# Altium integrated library Analog Devices Switches and Multiplexers Analog Switches.IntLib: 575 symbols (part 16 of 23)
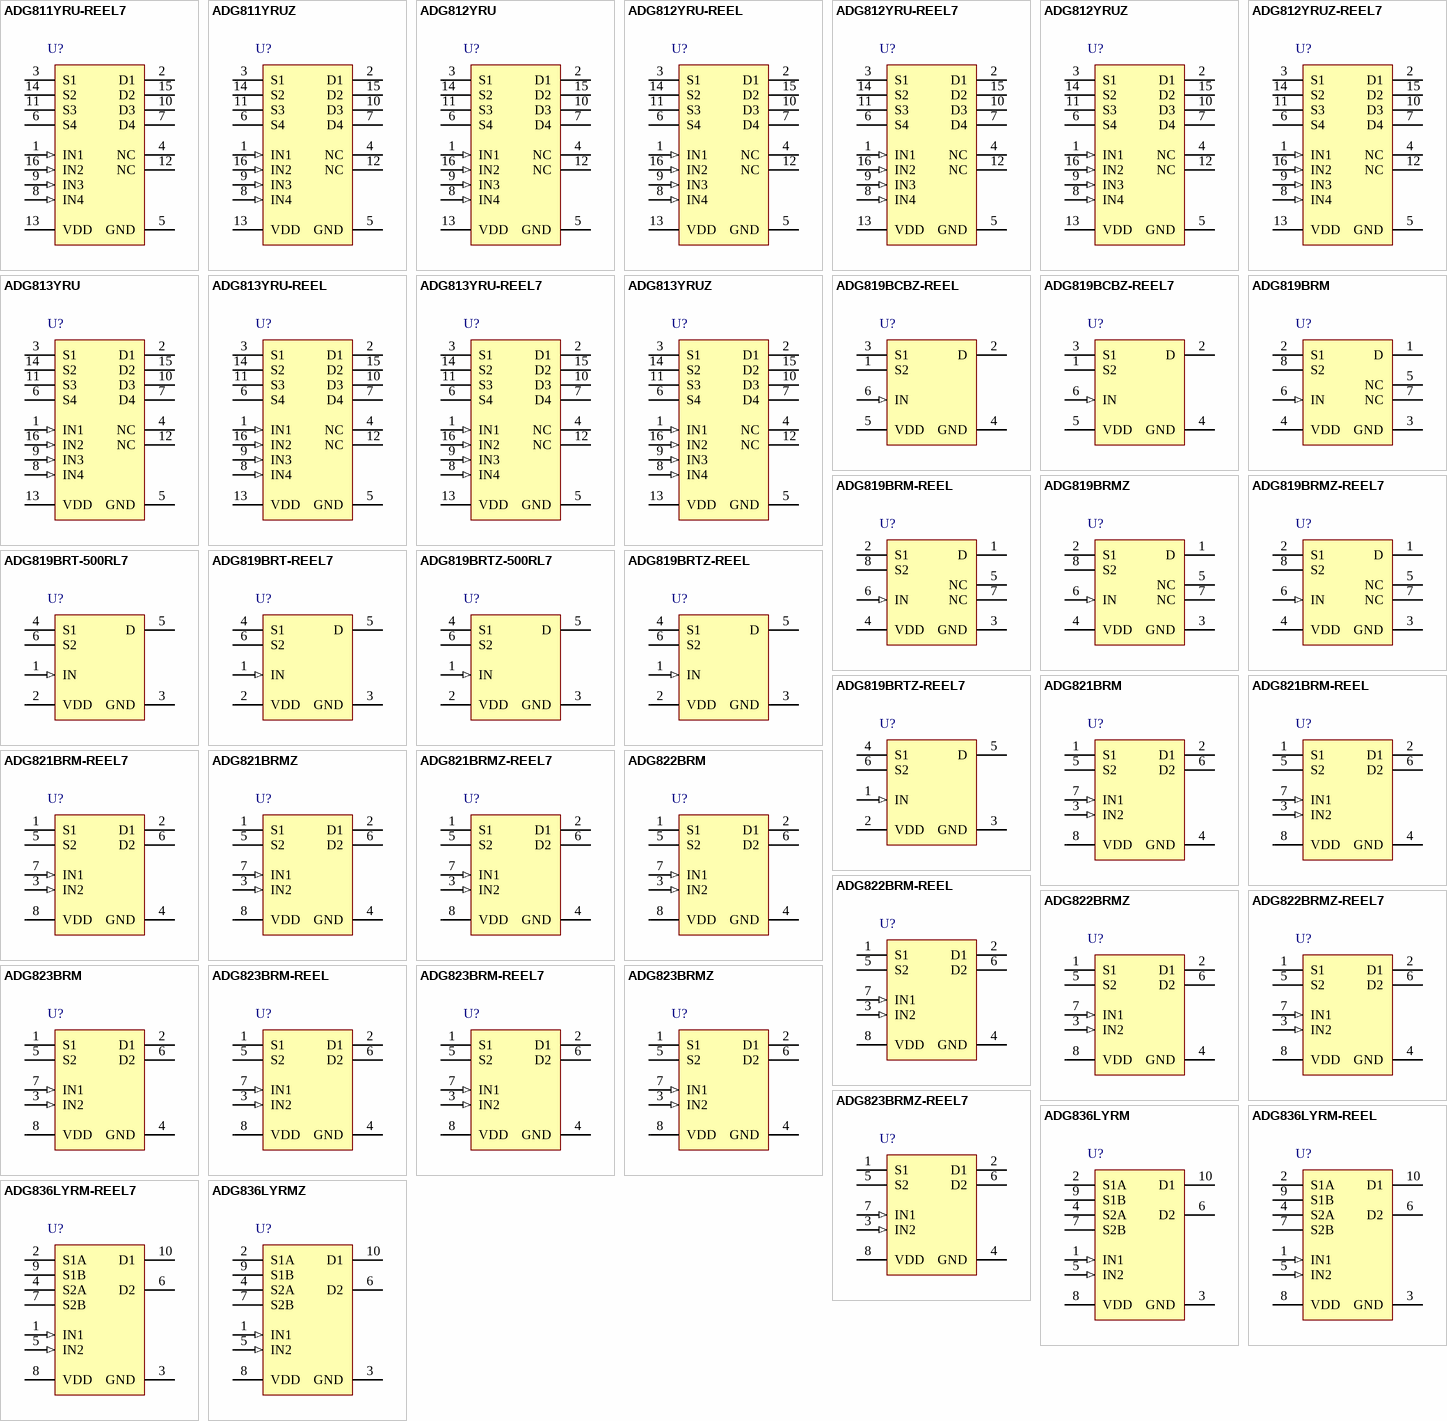
[diagram p30: symbols ADG811YRU-REEL7 to ADG836LYRMZ]

## ADG819BRMZ-REEL7
designator U?
0.5 Ohm, CMOS, 1.8 to 5.5 V, 2:1 Mux / SPDT Switch, -40 to 125 degC, 8-pin SOP (RM-8), Reel; Manufacturer: Analog Devices; PartNumber: ADG819BRMZ-REEL7; # Sw Functions: 1; Id, Is (ON): 10pA, 10pA; Max Pos Supply: 5.5V; Min Pos Supply: 1.8V; Power Dissipation: 5uW; Ron (ohms): 0.5; DatasheetVersion: 02-03-2012-A; PackageVersion: Aug-05; PackageReference: RM-8; PackageDescription: 8-Pin Mini Small Outline Package, Body 3 x 3 mm, Pitch 0.65 mm; Supplier 1: Digi-Key; Supplier Part Number 1: ADG819BRMZ-REEL7-ND; Supplier 2: Newark; Supplier Part Number 2: 59K1646; Supplier 3: Mouser; Supplier Part Number 3: 584-ADG819BRMZ-R7; Configuration: SPDT; Is OFF: 10pA, 10pA; Packing: Reel; Mounting Technology: Surface Mount; Code_JEDEC: MO-187-AA; ComponentLink1Description: Manufacturer URL; ComponentLink1URL: http://www.analog.com/en/index.html; ComponentLink2Description: Datasheet; ComponentLink2URL: http://www.analog.com/static/imported-files/data_sheets/ADG819.pdf; ComponentLink3Description: Package Specification; ComponentLink3URL: http://www.analog.com/static/imported-files/packages/PKG_PDF/MSOP%28RM%29/RM_8.pdf
footprint ADI-RM-8_N (SOP, 8-Leads, Body 3x3mm, Pitch 0.65mm, IPC Medium Density)
footprint ADI-RM-8_L (SOP, 8-Leads, Body 3x3mm, Pitch 0.65mm, IPC High Density)
footprint ADI-RM-8_M (SOP, 8-Leads, Body 3x3mm, Pitch 0.65mm, IPC Low Density)
pins: 1 D "Drain Terminal. Can be an input or output.", 2 S1 "Source Terminal. Can be an input or output.", 3 GND (power) "Ground (0 V) Reference.", 4 VDD (power) "Most Positive Power Supply Potential.", 5 NC "No Connect. Do not connect to this pin.", 6 IN (in) "Logic Control Input.", 7 NC "No Connect. Do not connect to this pin.", 8 S2 "Source Terminal. Can be an input or output."

## ADG819BRT-500RL7
designator U?
0.5 Ohm, CMOS, 1.8 to 5.5 V, 2:1 Mux / SPDT Switch, -40 to 125 degC, 6-pin SOT23 (RJ-6), Reel; Manufacturer: Analog Devices; PartNumber: ADG819BRT-500RL7; # Sw Functions: 1; Id, Is (ON): 10pA, 10pA; Max Pos Supply: 5.5V; Min Pos Supply: 1.8V; Power Dissipation: 5uW; Ron (ohms): 0.5; DatasheetVersion: 02-03-2012-A; PackageVersion: 121608-A, 12/2008; PackageReference: RJ-6; PackageDescription: 6-Pin Small Outline Transistor Package, Body 2.9 x 1.6 mm, Pitch 0.95 mm; Supplier 1: Digi-Key; Supplier Part Number 1: ADG819BRT-500RL7-ND; Supplier 2: Mouser; Supplier Part Number 2: 584-ADG819BRT-500R7; Configuration: SPDT; Is OFF: 10pA, 10pA; Packing: Reel; Mounting Technology: Surface Mount; Code_JEDEC: MO-178-AB; ComponentLink1Description: Manufacturer URL; ComponentLink1URL: http://www.analog.com/en/index.html; ComponentLink2Description: Datasheet; ComponentLink2URL: http://www.analog.com/static/imported-files/data_sheets/ADG819.pdf; ComponentLink3Description: Package Specification; ComponentLink3URL: http://www.analog.com/static/imported-files/packages/PKG_PDF/SOT-23(RJ)/RJ_6.pdf
footprint ADI-RJ-6_N (SOT23, 6-Leads, Body 2.9x1.6mm, Pitch 0.95mm, IPC Medium Density)
footprint ADI-RJ-6_L (SOT23, 6-Leads, Body 2.9x1.6mm, Pitch 0.95mm, IPC High Density)
footprint ADI-RJ-6_M (SOT23, 6-Leads, Body 2.9x1.6mm, Pitch 0.95mm, IPC Low Density)
pins: 1 IN (in) "Logic Control Input.", 2 VDD (power) "Most Positive Power Supply Potential.", 3 GND (power) "Ground (0 V) Reference.", 4 S1 "Source Terminal. Can be an input or output.", 5 D "Drain Terminal. Can be an input or output.", 6 S2 "Source Terminal. Can be an input or output."

## ADG819BRT-REEL7
designator U?
0.5 Ohm, CMOS, 1.8 to 5.5 V, 2:1 Mux / SPDT Switch, -40 to 125 degC, 6-pin SOT23 (RJ-6), Reel; Manufacturer: Analog Devices; PartNumber: ADG819BRT-REEL7; # Sw Functions: 1; Id, Is (ON): 10pA, 10pA; Max Pos Supply: 5.5V; Min Pos Supply: 1.8V; Power Dissipation: 5uW; Ron (ohms): 0.5; DatasheetVersion: 02-03-2012-A; PackageVersion: 121608-A, 12/2008; PackageReference: RJ-6; PackageDescription: 6-Pin Small Outline Transistor Package, Body 2.9 x 1.6 mm, Pitch 0.95 mm; Supplier 1: Digi-Key; Supplier Part Number 1: ADG819BRT-REEL7TR-ND; Supplier 2: Digi-Key; Supplier Part Number 2: ADG819BRT-REEL7CT-ND; Supplier 3: Digi-Key; Supplier Part Number 3: ADG819BRT-REEL7DKR-ND; Supplier 4: Newark; Supplier Part Number 4: 02H0937; Supplier 5: Mouser; Supplier Part Number 5: 584-ADG819BRT-R7; Configuration: SPDT; Is OFF: 10pA, 10pA; Packing: Reel; Mounting Technology: Surface Mount; Code_JEDEC: MO-178-AB; ComponentLink1Description: Manufacturer URL; ComponentLink1URL: http://www.analog.com/en/index.html; ComponentLink2Description: Datasheet; ComponentLink2URL: http://www.analog.com/static/imported-files/data_sheets/ADG819.pdf; ComponentLink3Description: Package Specification; ComponentLink3URL: http://www.analog.com/static/imported-files/packages/PKG_PDF/SOT-23(RJ)/RJ_6.pdf
footprint ADI-RJ-6_N (SOT23, 6-Leads, Body 2.9x1.6mm, Pitch 0.95mm, IPC Medium Density)
footprint ADI-RJ-6_L (SOT23, 6-Leads, Body 2.9x1.6mm, Pitch 0.95mm, IPC High Density)
footprint ADI-RJ-6_M (SOT23, 6-Leads, Body 2.9x1.6mm, Pitch 0.95mm, IPC Low Density)
pins: 1 IN (in) "Logic Control Input.", 2 VDD (power) "Most Positive Power Supply Potential.", 3 GND (power) "Ground (0 V) Reference.", 4 S1 "Source Terminal. Can be an input or output.", 5 D "Drain Terminal. Can be an input or output.", 6 S2 "Source Terminal. Can be an input or output."

## ADG819BRTZ-500RL7
designator U?
0.5 Ohm, CMOS, 1.8 to 5.5 V, 2:1 Mux / SPDT Switch, -40 to 125 degC, 6-pin SOT23 (RJ-6), Reel; Manufacturer: Analog Devices; PartNumber: ADG819BRTZ-500RL7; # Sw Functions: 1; Id, Is (ON): 10pA, 10pA; Max Pos Supply: 5.5V; Min Pos Supply: 1.8V; Power Dissipation: 5uW; Ron (ohms): 0.5; DatasheetVersion: 02-03-2012-A; PackageVersion: 121608-A, 12/2008; PackageReference: RJ-6; PackageDescription: 6-Pin Small Outline Transistor Package, Body 2.9 x 1.6 mm, Pitch 0.95 mm; Supplier 1: Digi-Key; Supplier Part Number 1: ADG819BRTZ-500RL7TR-ND; Supplier 2: Digi-Key; Supplier Part Number 2: ADG819BRTZ-500RL7CT-ND; Supplier 3: Digi-Key; Supplier Part Number 3: ADG819BRTZ-500RL7DKR-ND; Supplier 4: Farnell; Supplier Part Number 4: 2067801; Supplier 5: Newark; Supplier Part Number 5: 73T8148; Supplier 6: Newark; Supplier Part Number 6: 12M7851; Supplier 7: Mouser; Supplier Part Number 7: 584-ADG819BRTZ-500R7; Configuration: SPDT; Is OFF: 10pA, 10pA; Packing: Reel; Mounting Technology: Surface Mount; Code_JEDEC: MO-178-AB; ComponentLink1Description: Manufacturer URL; ComponentLink1URL: http://www.analog.com/en/index.html; ComponentLink2Description: Datasheet; ComponentLink2URL: http://www.analog.com/static/imported-files/data_sheets/ADG819.pdf; ComponentLink3Description: Package Specification; ComponentLink3URL: http://www.analog.com/static/imported-files/packages/PKG_PDF/SOT-23(RJ)/RJ_6.pdf
footprint ADI-RJ-6_N (SOT23, 6-Leads, Body 2.9x1.6mm, Pitch 0.95mm, IPC Medium Density)
footprint ADI-RJ-6_L (SOT23, 6-Leads, Body 2.9x1.6mm, Pitch 0.95mm, IPC High Density)
footprint ADI-RJ-6_M (SOT23, 6-Leads, Body 2.9x1.6mm, Pitch 0.95mm, IPC Low Density)
pins: 1 IN (in) "Logic Control Input.", 2 VDD (power) "Most Positive Power Supply Potential.", 3 GND (power) "Ground (0 V) Reference.", 4 S1 "Source Terminal. Can be an input or output.", 5 D "Drain Terminal. Can be an input or output.", 6 S2 "Source Terminal. Can be an input or output."

## ADG819BRTZ-REEL
designator U?
0.5 Ohm, CMOS, 1.8 to 5.5 V, 2:1 Mux / SPDT Switch, -40 to 125 degC, 6-pin SOT23 (RJ-6), Reel; Manufacturer: Analog Devices; PartNumber: ADG819BRTZ-REEL; # Sw Functions: 1; Id, Is (ON): 10pA, 10pA; Max Pos Supply: 5.5V; Min Pos Supply: 1.8V; Power Dissipation: 5uW; Ron (ohms): 0.5; DatasheetVersion: 02-03-2012-A; PackageVersion: 121608-A, 12/2008; PackageReference: RJ-6; PackageDescription: 6-Pin Small Outline Transistor Package, Body 2.9 x 1.6 mm, Pitch 0.95 mm; Supplier 1: Digi-Key; Supplier Part Number 1: ADG819BRTZ-REEL-ND; Supplier 2: Newark; Supplier Part Number 2: 12M7849; Supplier 3: Mouser; Supplier Part Number 3: 584-ADG819BRTZ-R; Configuration: SPDT; Is OFF: 10pA, 10pA; Packing: Reel; Mounting Technology: Surface Mount; Code_JEDEC: MO-178-AB; ComponentLink1Description: Manufacturer URL; ComponentLink1URL: http://www.analog.com/en/index.html; ComponentLink2Description: Datasheet; ComponentLink2URL: http://www.analog.com/static/imported-files/data_sheets/ADG819.pdf; ComponentLink3Description: Package Specification; ComponentLink3URL: http://www.analog.com/static/imported-files/packages/PKG_PDF/SOT-23(RJ)/RJ_6.pdf
footprint ADI-RJ-6_N (SOT23, 6-Leads, Body 2.9x1.6mm, Pitch 0.95mm, IPC Medium Density)
footprint ADI-RJ-6_L (SOT23, 6-Leads, Body 2.9x1.6mm, Pitch 0.95mm, IPC High Density)
footprint ADI-RJ-6_M (SOT23, 6-Leads, Body 2.9x1.6mm, Pitch 0.95mm, IPC Low Density)
pins: 1 IN (in) "Logic Control Input.", 2 VDD (power) "Most Positive Power Supply Potential.", 3 GND (power) "Ground (0 V) Reference.", 4 S1 "Source Terminal. Can be an input or output.", 5 D "Drain Terminal. Can be an input or output.", 6 S2 "Source Terminal. Can be an input or output."

## ADG819BRTZ-REEL7
designator U?
0.5 Ohm, CMOS, 1.8 to 5.5 V, 2:1 Mux / SPDT Switch, -40 to 125 degC, 6-pin SOT23 (RJ-6), Reel; Manufacturer: Analog Devices; PartNumber: ADG819BRTZ-REEL7; # Sw Functions: 1; Id, Is (ON): 10pA, 10pA; Max Pos Supply: 5.5V; Min Pos Supply: 1.8V; Power Dissipation: 5uW; Ron (ohms): 0.5; DatasheetVersion: 02-03-2012-A; PackageVersion: 121608-A, 12/2008; PackageReference: RJ-6; PackageDescription: 6-Pin Small Outline Transistor Package, Body 2.9 x 1.6 mm, Pitch 0.95 mm; Supplier 1: Digi-Key; Supplier Part Number 1: ADG819BRTZ-REEL7TR-ND; Supplier 2: Digi-Key; Supplier Part Number 2: ADG819BRTZ-REEL7CT-ND; Supplier 3: Digi-Key; Supplier Part Number 3: ADG819BRTZ-REEL7DKR-ND; Supplier 4: Newark; Supplier Part Number 4: 12M7850; Supplier 5: Mouser; Supplier Part Number 5: 584-ADG819BRTZ-R7; Configuration: SPDT; Is OFF: 10pA, 10pA; Packing: Reel; Mounting Technology: Surface Mount; Code_JEDEC: MO-178-AB; ComponentLink1Description: Manufacturer URL; ComponentLink1URL: http://www.analog.com/en/index.html; ComponentLink2Description: Datasheet; ComponentLink2URL: http://www.analog.com/static/imported-files/data_sheets/ADG819.pdf; ComponentLink3Description: Package Specification; ComponentLink3URL: http://www.analog.com/static/imported-files/packages/PKG_PDF/SOT-23(RJ)/RJ_6.pdf
footprint ADI-RJ-6_N (SOT23, 6-Leads, Body 2.9x1.6mm, Pitch 0.95mm, IPC Medium Density)
footprint ADI-RJ-6_L (SOT23, 6-Leads, Body 2.9x1.6mm, Pitch 0.95mm, IPC High Density)
footprint ADI-RJ-6_M (SOT23, 6-Leads, Body 2.9x1.6mm, Pitch 0.95mm, IPC Low Density)
pins: 1 IN (in) "Logic Control Input.", 2 VDD (power) "Most Positive Power Supply Potential.", 3 GND (power) "Ground (0 V) Reference.", 4 S1 "Source Terminal. Can be an input or output.", 5 D "Drain Terminal. Can be an input or output.", 6 S2 "Source Terminal. Can be an input or output."

## ADG821BRM
designator U?
<1 Ohm CMOS, 1.8 to 5.5 V, Dual SPST Switches, -40 to 125 degC, 8-pin SOP (RM-8), Tube; Manufacturer: Analog Devices; PartNumber: ADG821BRM; # Sw Functions: 2; Id, Is (ON): 10pA, 10pA; Max Pos Supply: 5.5V; Min Pos Supply: 1.8V; Power Dissipation: 5uW; DatasheetVersion: Rev. A; PackageVersion: Aug-05; PackageReference: RM-8; PackageDescription: 8-Pin Mini Small Outline Package, Body 3 x 3 mm, Pitch 0.65 mm; Supplier 1: Digi-Key; Supplier Part Number 1: ADG821BRM-ND; Supplier 2: Mouser; Supplier Part Number 2: 584-ADG821BRM; Configuration: SPST; Is OFF: 10pA, 10pA; Packing: Tube; Mounting Technology: Surface Mount; Code_JEDEC: MO-187-AA; ComponentLink1Description: Manufacturer URL; ComponentLink1URL: http://www.analog.com/en/index.html; ComponentLink2Description: Datasheet; ComponentLink2URL: http://www.analog.com/static/imported-files/data_sheets/ADG821_822_823.pdf; ComponentLink3Description: Package Specification; ComponentLink3URL: http://www.analog.com/static/imported-files/packages/PKG_PDF/MSOP%28RM%29/RM_8.pdf
footprint ADI-RM-8_N (SOP, 8-Leads, Body 3x3mm, Pitch 0.65mm, IPC Medium Density)
footprint ADI-RM-8_L (SOP, 8-Leads, Body 3x3mm, Pitch 0.65mm, IPC High Density)
footprint ADI-RM-8_M (SOP, 8-Leads, Body 3x3mm, Pitch 0.65mm, IPC Low Density)
pins: 1 S1 "Source Terminal. This pin can be an input or output.", 2 D1 "Drain Terminal. This pin can be an input or output.", 3 IN2 (in) "Logic Control Input.", 4 GND (power) "Ground (0 V) Reference.", 5 S2 "Source Terminal. This pin can be an input or output.", 6 D2 "Drain Terminal. This pin can be an input or output.", 7 IN1 (in) "Logic Control Input.", 8 VDD (power) "Most Positive Power Supply Potential."

## ADG821BRM-REEL
designator U?
<1 Ohm CMOS, 1.8 to 5.5 V, Dual SPST Switch, -40 to 125 degC, 8-pin SOP (RM-8), Reel; Manufacturer: Analog Devices; PartNumber: ADG821BRM-REEL; # Sw Functions: 2; Id, Is (ON): 10pA, 10pA; Max Pos Supply: 5.5V; Min Pos Supply: 1.8V; Power Dissipation: 5uW; DatasheetVersion: Rev. A; PackageVersion: Aug-05; PackageReference: RM-8; PackageDescription: 8-Pin Mini Small Outline Package, Body 3 x 3 mm, Pitch 0.65 mm; Supplier 1: Digi-Key; Supplier Part Number 1: ADG821BRM-REEL-ND; Supplier 2: Mouser; Supplier Part Number 2: 584-ADG821BRM-R; Configuration: SPST; Is OFF: 10pA, 10pA; Packing: Reel; Mounting Technology: Surface Mount; Code_JEDEC: MO-187-AA; ComponentLink1Description: Manufacturer URL; ComponentLink1URL: http://www.analog.com/en/index.html; ComponentLink2Description: Datasheet; ComponentLink2URL: http://www.analog.com/static/imported-files/data_sheets/ADG821_822_823.pdf; ComponentLink3Description: Package Specification; ComponentLink3URL: http://www.analog.com/static/imported-files/packages/PKG_PDF/MSOP%28RM%29/RM_8.pdf
footprint ADI-RM-8_N (SOP, 8-Leads, Body 3x3mm, Pitch 0.65mm, IPC Medium Density)
footprint ADI-RM-8_L (SOP, 8-Leads, Body 3x3mm, Pitch 0.65mm, IPC High Density)
footprint ADI-RM-8_M (SOP, 8-Leads, Body 3x3mm, Pitch 0.65mm, IPC Low Density)
pins: 1 S1 "Source Terminal. This pin can be an input or output.", 2 D1 "Drain Terminal. This pin can be an input or output.", 3 IN2 (in) "Logic Control Input.", 4 GND (power) "Ground (0 V) Reference.", 5 S2 "Source Terminal. This pin can be an input or output.", 6 D2 "Drain Terminal. This pin can be an input or output.", 7 IN1 (in) "Logic Control Input.", 8 VDD (power) "Most Positive Power Supply Potential."

## ADG821BRM-REEL7
designator U?
<1 Ohm CMOS, 1.8 to 5.5 V, Dual SPST Switches, -40 to 125 degC, 8-pin SOP (RM-8), Reel; Manufacturer: Analog Devices; PartNumber: ADG821BRM-REEL7; # Sw Functions: 2; Id, Is (ON): 10pA, 10pA; Max Pos Supply: 5.5V; Min Pos Supply: 1.8V; Power Dissipation: 5uW; DatasheetVersion: Rev. A; PackageVersion: Aug-05; PackageReference: RM-8; PackageDescription: 8-Pin Mini Small Outline Package, Body 3 x 3 mm, Pitch 0.65 mm; Supplier 1: Mouser; Supplier Part Number 1: N/A; Configuration: SPST; Is OFF: 10pA, 10pA; Packing: Reel; Mounting Technology: Surface Mount; Code_JEDEC: MO-187-AA; ComponentLink1Description: Manufacturer URL; ComponentLink1URL: http://www.analog.com/en/index.html; ComponentLink2Description: Datasheet; ComponentLink2URL: http://www.analog.com/static/imported-files/data_sheets/ADG821_822_823.pdf; ComponentLink3Description: Package Specification; ComponentLink3URL: http://www.analog.com/static/imported-files/packages/PKG_PDF/MSOP%28RM%29/RM_8.pdf
footprint ADI-RM-8_N (SOP, 8-Leads, Body 3x3mm, Pitch 0.65mm, IPC Medium Density)
footprint ADI-RM-8_L (SOP, 8-Leads, Body 3x3mm, Pitch 0.65mm, IPC High Density)
footprint ADI-RM-8_M (SOP, 8-Leads, Body 3x3mm, Pitch 0.65mm, IPC Low Density)
pins: 1 S1 "Source Terminal. This pin can be an input or output.", 2 D1 "Drain Terminal. This pin can be an input or output.", 3 IN2 (in) "Logic Control Input.", 4 GND (power) "Ground (0 V) Reference.", 5 S2 "Source Terminal. This pin can be an input or output.", 6 D2 "Drain Terminal. This pin can be an input or output.", 7 IN1 (in) "Logic Control Input.", 8 VDD (power) "Most Positive Power Supply Potential."

## ADG821BRMZ
designator U?
<1 Ohm CMOS, 1.8 to 5.5 V, Dual SPST Switch, -40 to 125 degC, 8-pin SOP (RM-8), Tube; Manufacturer: Analog Devices; PartNumber: ADG821BRMZ; # Sw Functions: 2; Id, Is (ON): 10pA, 10pA; Max Pos Supply: 5.5V; Min Pos Supply: 1.8V; Power Dissipation: 5uW; DatasheetVersion: Rev. A; PackageVersion: Aug-05; PackageReference: RM-8; PackageDescription: 8-Pin Mini Small Outline Package, Body 3 x 3 mm, Pitch 0.65 mm; Supplier 1: Digi-Key; Supplier Part Number 1: ADG821BRMZ-ND; Supplier 2: Farnell; Supplier Part Number 2: 1661039; Supplier 3: Newark; Supplier Part Number 3: 19M8674; Supplier 4: Mouser; Supplier Part Number 4: 584-ADG821BRMZ; Configuration: SPST; Is OFF: 10pA, 10pA; Packing: Tube; Mounting Technology: Surface Mount; Code_JEDEC: MO-187-AA; ComponentLink1Description: Manufacturer URL; ComponentLink1URL: http://www.analog.com/en/index.html; ComponentLink2Description: Datasheet; ComponentLink2URL: http://www.analog.com/static/imported-files/data_sheets/ADG821_822_823.pdf; ComponentLink3Description: Package Specification; ComponentLink3URL: http://www.analog.com/static/imported-files/packages/PKG_PDF/MSOP%28RM%29/RM_8.pdf
footprint ADI-RM-8_N (SOP, 8-Leads, Body 3x3mm, Pitch 0.65mm, IPC Medium Density)
footprint ADI-RM-8_L (SOP, 8-Leads, Body 3x3mm, Pitch 0.65mm, IPC High Density)
footprint ADI-RM-8_M (SOP, 8-Leads, Body 3x3mm, Pitch 0.65mm, IPC Low Density)
pins: 1 S1 "Source Terminal. This pin can be an input or output.", 2 D1 "Drain Terminal. This pin can be an input or output.", 3 IN2 (in) "Logic Control Input.", 4 GND (power) "Ground (0 V) Reference.", 5 S2 "Source Terminal. This pin can be an input or output.", 6 D2 "Drain Terminal. This pin can be an input or output.", 7 IN1 (in) "Logic Control Input.", 8 VDD (power) "Most Positive Power Supply Potential."

## ADG821BRMZ-REEL7
designator U?
<1 Ohm CMOS, 1.8 to 5.5 V, Dual SPST Switches, -40 to 125 degC, 8-pin SOP (RM-8), Reel; Manufacturer: Analog Devices; PartNumber: ADG821BRMZ-REEL7; # Sw Functions: 2; Id, Is (ON): 10pA, 10pA; Max Pos Supply: 5.5V; Min Pos Supply: 1.8V; Power Dissipation: 5uW; DatasheetVersion: Rev. A; PackageVersion: Aug-05; PackageReference: RM-8; PackageDescription: 8-Pin Mini Small Outline Package, Body 3 x 3 mm, Pitch 0.65 mm; Supplier 1: Digi-Key; Supplier Part Number 1: ADG821BRMZ-REEL7TR-ND; Supplier 2: Digi-Key; Supplier Part Number 2: ADG821BRMZ-REEL7CT-ND; Supplier 3: Digi-Key; Supplier Part Number 3: ADG821BRMZ-REEL7DKR-ND; Supplier 4: Newark; Supplier Part Number 4: 59K1649; Supplier 5: Mouser; Supplier Part Number 5: 584-ADG821BRMZ-R7; Configuration: SPST; Is OFF: 10pA, 10pA; Packing: Reel; Mounting Technology: Surface Mount; Code_JEDEC: MO-187-AA; ComponentLink1Description: Manufacturer URL; ComponentLink1URL: http://www.analog.com/en/index.html; ComponentLink2Description: Datasheet; ComponentLink2URL: http://www.analog.com/static/imported-files/data_sheets/ADG821_822_823.pdf; ComponentLink3Description: Package Specification; ComponentLink3URL: http://www.analog.com/static/imported-files/packages/PKG_PDF/MSOP%28RM%29/RM_8.pdf
footprint ADI-RM-8_N (SOP, 8-Leads, Body 3x3mm, Pitch 0.65mm, IPC Medium Density)
footprint ADI-RM-8_L (SOP, 8-Leads, Body 3x3mm, Pitch 0.65mm, IPC High Density)
footprint ADI-RM-8_M (SOP, 8-Leads, Body 3x3mm, Pitch 0.65mm, IPC Low Density)
pins: 1 S1 "Source Terminal. This pin can be an input or output.", 2 D1 "Drain Terminal. This pin can be an input or output.", 3 IN2 (in) "Logic Control Input.", 4 GND (power) "Ground (0 V) Reference.", 5 S2 "Source Terminal. This pin can be an input or output.", 6 D2 "Drain Terminal. This pin can be an input or output.", 7 IN1 (in) "Logic Control Input.", 8 VDD (power) "Most Positive Power Supply Potential."

## ADG822BRM
designator U?
<1 Ohm CMOS, 1.8 to 5.5 V, Dual SPST Switches, -40 to 125 degC, 8-pin SOP (RM-8), Tube; Manufacturer: Analog Devices; PartNumber: ADG822BRM; # Sw Functions: 2; Id, Is (ON): 10pA, 10pA; Max Pos Supply: 5.5V; Min Pos Supply: 1.8V; Power Dissipation: 5uW; DatasheetVersion: Rev. A; PackageVersion: Aug-05; PackageReference: RM-8; PackageDescription: 8-Pin Mini Small Outline Package, Body 3 x 3 mm, Pitch 0.65 mm; Supplier 1: Digi-Key; Supplier Part Number 1: ADG822BRM-ND; Supplier 2: Mouser; Supplier Part Number 2: 584-ADG822BRM; Configuration: SPST; Is OFF: 10pA, 10pA; Packing: Tube; Mounting Technology: Surface Mount; Code_JEDEC: MO-187-AA; ComponentLink1Description: Manufacturer URL; ComponentLink1URL: http://www.analog.com/en/index.html; ComponentLink2Description: Datasheet; ComponentLink2URL: http://www.analog.com/static/imported-files/data_sheets/ADG821_822_823.pdf; ComponentLink3Description: Package Specification; ComponentLink3URL: http://www.analog.com/static/imported-files/packages/PKG_PDF/MSOP%28RM%29/RM_8.pdf
footprint ADI-RM-8_N (SOP, 8-Leads, Body 3x3mm, Pitch 0.65mm, IPC Medium Density)
footprint ADI-RM-8_L (SOP, 8-Leads, Body 3x3mm, Pitch 0.65mm, IPC High Density)
footprint ADI-RM-8_M (SOP, 8-Leads, Body 3x3mm, Pitch 0.65mm, IPC Low Density)
pins: 1 S1 "Source Terminal. This pin can be an input or output.", 2 D1 "Drain Terminal. This pin can be an input or output.", 3 IN2 (in) "Logic Control Input.", 4 GND (power) "Ground (0 V) Reference.", 5 S2 "Source Terminal. This pin can be an input or output.", 6 D2 "Drain Terminal. This pin can be an input or output.", 7 IN1 (in) "Logic Control Input.", 8 VDD (power) "Most Positive Power Supply Potential."

## ADG822BRM-REEL
designator U?
<1 Ohm CMOS, 1.8 to 5.5 V, Dual SPST Switches, -40 to 125 degC, 8-pin SOP (RM-8), Reel; Manufacturer: Analog Devices; PartNumber: ADG822BRM-REEL; # Sw Functions: 2; Id, Is (ON): 10pA, 10pA; Max Pos Supply: 5.5V; Min Pos Supply: 1.8V; Power Dissipation: 5uW; DatasheetVersion: Rev. A; PackageVersion: Aug-05; PackageReference: RM-8; PackageDescription: 8-Pin Mini Small Outline Package, Body 3 x 3 mm, Pitch 0.65 mm; Supplier 1: Digi-Key; Supplier Part Number 1: ADG822BRM-REEL-ND; Supplier 2: Mouser; Supplier Part Number 2: 584-ADG822BRM-R; Configuration: SPST; Is OFF: 10pA, 10pA; Packing: Reel; Mounting Technology: Surface Mount; Code_JEDEC: MO-187-AA; ComponentLink1Description: Manufacturer URL; ComponentLink1URL: http://www.analog.com/en/index.html; ComponentLink2Description: Datasheet; ComponentLink2URL: http://www.analog.com/static/imported-files/data_sheets/ADG821_822_823.pdf; ComponentLink3Description: Package Specification; ComponentLink3URL: http://www.analog.com/static/imported-files/packages/PKG_PDF/MSOP%28RM%29/RM_8.pdf
footprint ADI-RM-8_N (SOP, 8-Leads, Body 3x3mm, Pitch 0.65mm, IPC Medium Density)
footprint ADI-RM-8_L (SOP, 8-Leads, Body 3x3mm, Pitch 0.65mm, IPC High Density)
footprint ADI-RM-8_M (SOP, 8-Leads, Body 3x3mm, Pitch 0.65mm, IPC Low Density)
pins: 1 S1 "Source Terminal. This pin can be an input or output.", 2 D1 "Drain Terminal. This pin can be an input or output.", 3 IN2 (in) "Logic Control Input.", 4 GND (power) "Ground (0 V) Reference.", 5 S2 "Source Terminal. This pin can be an input or output.", 6 D2 "Drain Terminal. This pin can be an input or output.", 7 IN1 (in) "Logic Control Input.", 8 VDD (power) "Most Positive Power Supply Potential."

## ADG822BRMZ
designator U?
<1 Ohm CMOS, 1.8 to 5.5 V, Dual SPST Switches, -40 to 125 degC, 8-pin SOP (RM-8), Tube; Manufacturer: Analog Devices; PartNumber: ADG822BRMZ; # Sw Functions: 2; Id, Is (ON): 10pA, 10pA; Max Pos Supply: 5.5V; Min Pos Supply: 1.8V; Power Dissipation: 5uW; DatasheetVersion: Rev. A; PackageVersion: Aug-05; PackageReference: RM-8; PackageDescription: 8-Pin Mini Small Outline Package, Body 3 x 3 mm, Pitch 0.65 mm; Supplier 1: Digi-Key; Supplier Part Number 1: ADG822BRMZ-ND; Supplier 2: Newark; Supplier Part Number 2: 59K1650; Supplier 3: Mouser; Supplier Part Number 3: 584-ADG822BRMZ; Configuration: SPST; Is OFF: 10pA, 10pA; Packing: Tube; Mounting Technology: Surface Mount; Code_JEDEC: MO-187-AA; ComponentLink1Description: Manufacturer URL; ComponentLink1URL: http://www.analog.com/en/index.html; ComponentLink2Description: Datasheet; ComponentLink2URL: http://www.analog.com/static/imported-files/data_sheets/ADG821_822_823.pdf; ComponentLink3Description: Package Specification; ComponentLink3URL: http://www.analog.com/static/imported-files/packages/PKG_PDF/MSOP%28RM%29/RM_8.pdf
footprint ADI-RM-8_N (SOP, 8-Leads, Body 3x3mm, Pitch 0.65mm, IPC Medium Density)
footprint ADI-RM-8_L (SOP, 8-Leads, Body 3x3mm, Pitch 0.65mm, IPC High Density)
footprint ADI-RM-8_M (SOP, 8-Leads, Body 3x3mm, Pitch 0.65mm, IPC Low Density)
pins: 1 S1 "Source Terminal. This pin can be an input or output.", 2 D1 "Drain Terminal. This pin can be an input or output.", 3 IN2 (in) "Logic Control Input.", 4 GND (power) "Ground (0 V) Reference.", 5 S2 "Source Terminal. This pin can be an input or output.", 6 D2 "Drain Terminal. This pin can be an input or output.", 7 IN1 (in) "Logic Control Input.", 8 VDD (power) "Most Positive Power Supply Potential."

## ADG822BRMZ-REEL7
designator U?
<1 Ohm CMOS, 1.8 to 5.5 V, Dual SPST Switches, -40 to 125 degC, 8-pin SOP (RM-8), Reel; Manufacturer: Analog Devices; PartNumber: ADG822BRMZ-REEL7; # Sw Functions: 2; Id, Is (ON): 10pA, 10pA; Max Pos Supply: 5.5V; Min Pos Supply: 1.8V; Power Dissipation: 5uW; DatasheetVersion: Rev. A; PackageVersion: Aug-05; PackageReference: RM-8; PackageDescription: 8-Pin Mini Small Outline Package, Body 3 x 3 mm, Pitch 0.65 mm; Supplier 1: Digi-Key; Supplier Part Number 1: ADG822BRMZ-REEL7-ND; Supplier 2: Newark; Supplier Part Number 2: 12M7855; Supplier 3: Mouser; Supplier Part Number 3: 584-ADG822BRMZ-R7; Configuration: SPST; Is OFF: 10pA, 10pA; Packing: Reel; Mounting Technology: Surface Mount; Code_JEDEC: MO-187-AA; ComponentLink1Description: Manufacturer URL; ComponentLink1URL: http://www.analog.com/en/index.html; ComponentLink2Description: Datasheet; ComponentLink2URL: http://www.analog.com/static/imported-files/data_sheets/ADG821_822_823.pdf; ComponentLink3Description: Package Specification; ComponentLink3URL: http://www.analog.com/static/imported-files/packages/PKG_PDF/MSOP%28RM%29/RM_8.pdf
footprint ADI-RM-8_N (SOP, 8-Leads, Body 3x3mm, Pitch 0.65mm, IPC Medium Density)
footprint ADI-RM-8_L (SOP, 8-Leads, Body 3x3mm, Pitch 0.65mm, IPC High Density)
footprint ADI-RM-8_M (SOP, 8-Leads, Body 3x3mm, Pitch 0.65mm, IPC Low Density)
pins: 1 S1 "Source Terminal. This pin can be an input or output.", 2 D1 "Drain Terminal. This pin can be an input or output.", 3 IN2 (in) "Logic Control Input.", 4 GND (power) "Ground (0 V) Reference.", 5 S2 "Source Terminal. This pin can be an input or output.", 6 D2 "Drain Terminal. This pin can be an input or output.", 7 IN1 (in) "Logic Control Input.", 8 VDD (power) "Most Positive Power Supply Potential."

## ADG823BRM
designator U?
<1 Ohm CMOS, 1.8 to 5.5 V, Dual SPST Switches, -40 to 125 degC, 8-pin SOP (RM-8), Tube; Manufacturer: Analog Devices; PartNumber: ADG823BRM; # Sw Functions: 2; Id, Is (ON): 10pA, 10pA; Max Pos Supply: 5.5V; Min Pos Supply: 1.8V; Power Dissipation: 5uW; DatasheetVersion: Rev. A; PackageVersion: Aug-05; PackageReference: RM-8; PackageDescription: 8-Pin Mini Small Outline Package, Body 3 x 3 mm, Pitch 0.65 mm; Supplier 1: Digi-Key; Supplier Part Number 1: ADG823BRM-ND; Supplier 2: Mouser; Supplier Part Number 2: 584-ADG823BRM; Configuration: SPST; Is OFF: 10pA, 10pA; Packing: Tube; Mounting Technology: Surface Mount; Code_JEDEC: MO-187-AA; ComponentLink1Description: Manufacturer URL; ComponentLink1URL: http://www.analog.com/en/index.html; ComponentLink2Description: Datasheet; ComponentLink2URL: http://www.analog.com/static/imported-files/data_sheets/ADG821_822_823.pdf; ComponentLink3Description: Package Specification; ComponentLink3URL: http://www.analog.com/static/imported-files/packages/PKG_PDF/MSOP%28RM%29/RM_8.pdf
footprint ADI-RM-8_N (SOP, 8-Leads, Body 3x3mm, Pitch 0.65mm, IPC Medium Density)
footprint ADI-RM-8_L (SOP, 8-Leads, Body 3x3mm, Pitch 0.65mm, IPC High Density)
footprint ADI-RM-8_M (SOP, 8-Leads, Body 3x3mm, Pitch 0.65mm, IPC Low Density)
pins: 1 S1 "Source Terminal. This pin can be an input or output.", 2 D1 "Drain Terminal. This pin can be an input or output.", 3 IN2 (in) "Logic Control Input.", 4 GND (power) "Ground (0 V) Reference.", 5 S2 "Source Terminal. This pin can be an input or output.", 6 D2 "Drain Terminal. This pin can be an input or output.", 7 IN1 (in) "Logic Control Input.", 8 VDD (power) "Most Positive Power Supply Potential."

## ADG823BRM-REEL
designator U?
<1 Ohm CMOS, 1.8 to 5.5 V, Dual SPST Switches, -40 to 125 degC, 8-pin SOP (RM-8), Reel; Manufacturer: Analog Devices; PartNumber: ADG823BRM-REEL; # Sw Functions: 2; Id, Is (ON): 10pA, 10pA; Max Pos Supply: 5.5V; Min Pos Supply: 1.8V; Power Dissipation: 5uW; DatasheetVersion: Rev. A; PackageVersion: Aug-05; PackageReference: RM-8; PackageDescription: 8-Pin Mini Small Outline Package, Body 3 x 3 mm, Pitch 0.65 mm; Supplier 1: Digi-Key; Supplier Part Number 1: ADG823BRM-REEL-ND; Supplier 2: Mouser; Supplier Part Number 2: 584-ADG823BRM-R; Configuration: SPST; Is OFF: 10pA, 10pA; Packing: Reel; Mounting Technology: Surface Mount; Code_JEDEC: MO-187-AA; ComponentLink1Description: Manufacturer URL; ComponentLink1URL: http://www.analog.com/en/index.html; ComponentLink2Description: Datasheet; ComponentLink2URL: http://www.analog.com/static/imported-files/data_sheets/ADG821_822_823.pdf; ComponentLink3Description: Package Specification; ComponentLink3URL: http://www.analog.com/static/imported-files/packages/PKG_PDF/MSOP%28RM%29/RM_8.pdf
footprint ADI-RM-8_N (SOP, 8-Leads, Body 3x3mm, Pitch 0.65mm, IPC Medium Density)
footprint ADI-RM-8_L (SOP, 8-Leads, Body 3x3mm, Pitch 0.65mm, IPC High Density)
footprint ADI-RM-8_M (SOP, 8-Leads, Body 3x3mm, Pitch 0.65mm, IPC Low Density)
pins: 1 S1 "Source Terminal. This pin can be an input or output.", 2 D1 "Drain Terminal. This pin can be an input or output.", 3 IN2 (in) "Logic Control Input.", 4 GND (power) "Ground (0 V) Reference.", 5 S2 "Source Terminal. This pin can be an input or output.", 6 D2 "Drain Terminal. This pin can be an input or output.", 7 IN1 (in) "Logic Control Input.", 8 VDD (power) "Most Positive Power Supply Potential."

## ADG823BRM-REEL7
designator U?
<1 Ohm CMOS, 1.8 to 5.5 V, Dual SPST Switch, -40 to 125 degC, 8-pin SOP (RM-8), Reel; Manufacturer: Analog Devices; PartNumber: ADG823BRM-REEL7; # Sw Functions: 2; Id, Is (ON): 10pA, 10pA; Max Pos Supply: 5.5V; Min Pos Supply: 1.8V; Power Dissipation: 5uW; DatasheetVersion: Rev. A; PackageVersion: Aug-05; PackageReference: RM-8; PackageDescription: 8-Pin Mini Small Outline Package, Body 3 x 3 mm, Pitch 0.65 mm; Supplier 1: Mouser; Supplier Part Number 1: N/A; Configuration: SPST; Is OFF: 10pA, 10pA; Packing: Reel; Mounting Technology: Surface Mount; Code_JEDEC: MO-187-AA; ComponentLink1Description: Manufacturer URL; ComponentLink1URL: http://www.analog.com/en/index.html; ComponentLink2Description: Datasheet; ComponentLink2URL: http://www.analog.com/static/imported-files/data_sheets/ADG821_822_823.pdf; ComponentLink3Description: Package Specification; ComponentLink3URL: http://www.analog.com/static/imported-files/packages/PKG_PDF/MSOP%28RM%29/RM_8.pdf
footprint ADI-RM-8_N (SOP, 8-Leads, Body 3x3mm, Pitch 0.65mm, IPC Medium Density)
footprint ADI-RM-8_L (SOP, 8-Leads, Body 3x3mm, Pitch 0.65mm, IPC High Density)
footprint ADI-RM-8_M (SOP, 8-Leads, Body 3x3mm, Pitch 0.65mm, IPC Low Density)
pins: 1 S1 "Source Terminal. This pin can be an input or output.", 2 D1 "Drain Terminal. This pin can be an input or output.", 3 IN2 (in) "Logic Control Input.", 4 GND (power) "Ground (0 V) Reference.", 5 S2 "Source Terminal. This pin can be an input or output.", 6 D2 "Drain Terminal. This pin can be an input or output.", 7 IN1 (in) "Logic Control Input.", 8 VDD (power) "Most Positive Power Supply Potential."

## ADG823BRMZ
designator U?
<1 Ohm CMOS, 1.8 to 5.5 V, Dual SPST Switches, -40 to 125 degC, 8-pin SOP (RM-8), Tube; Manufacturer: Analog Devices; PartNumber: ADG823BRMZ; # Sw Functions: 2; Id, Is (ON): 10pA, 10pA; Max Pos Supply: 5.5V; Min Pos Supply: 1.8V; Power Dissipation: 5uW; DatasheetVersion: Rev. A; PackageVersion: Aug-05; PackageReference: RM-8; PackageDescription: 8-Pin Mini Small Outline Package, Body 3 x 3 mm, Pitch 0.65 mm; Supplier 1: Digi-Key; Supplier Part Number 1: ADG823BRMZ-ND; Supplier 2: Farnell; Supplier Part Number 2: 2376784; Supplier 3: Farnell; Supplier Part Number 3: 2317271; Supplier 4: Newark; Supplier Part Number 4: 12M7856; Supplier 5: Mouser; Supplier Part Number 5: 584-ADG823BRMZ; Configuration: SPST; Is OFF: 10pA, 10pA; Packing: Tube; Mounting Technology: Surface Mount; Code_JEDEC: MO-187-AA; ComponentLink1Description: Manufacturer URL; ComponentLink1URL: http://www.analog.com/en/index.html; ComponentLink2Description: Datasheet; ComponentLink2URL: http://www.analog.com/static/imported-files/data_sheets/ADG821_822_823.pdf; ComponentLink3Description: Package Specification; ComponentLink3URL: http://www.analog.com/static/imported-files/packages/PKG_PDF/MSOP%28RM%29/RM_8.pdf
footprint ADI-RM-8_N (SOP, 8-Leads, Body 3x3mm, Pitch 0.65mm, IPC Medium Density)
footprint ADI-RM-8_L (SOP, 8-Leads, Body 3x3mm, Pitch 0.65mm, IPC High Density)
footprint ADI-RM-8_M (SOP, 8-Leads, Body 3x3mm, Pitch 0.65mm, IPC Low Density)
pins: 1 S1 "Source Terminal. This pin can be an input or output.", 2 D1 "Drain Terminal. This pin can be an input or output.", 3 IN2 (in) "Logic Control Input.", 4 GND (power) "Ground (0 V) Reference.", 5 S2 "Source Terminal. This pin can be an input or output.", 6 D2 "Drain Terminal. This pin can be an input or output.", 7 IN1 (in) "Logic Control Input.", 8 VDD (power) "Most Positive Power Supply Potential."

## ADG823BRMZ-REEL7
designator U?
<1 Ohm CMOS, 1.8 to 5.5 V, Dual SPST Switch, -40 to 125 degC, 8-pin SOP (RM-8), Reel; Manufacturer: Analog Devices; PartNumber: ADG823BRMZ-REEL7; # Sw Functions: 2; Id, Is (ON): 10pA, 10pA; Max Pos Supply: 5.5V; Min Pos Supply: 1.8V; Power Dissipation: 5uW; DatasheetVersion: Rev. A; PackageVersion: Aug-05; PackageReference: RM-8; PackageDescription: 8-Pin Mini Small Outline Package, Body 3 x 3 mm, Pitch 0.65 mm; Supplier 1: Digi-Key; Supplier Part Number 1: ADG823BRMZ-REEL7-ND; Supplier 2: Mouser; Supplier Part Number 2: 584-ADG823BRMZ-R7; Configuration: SPST; Is OFF: 10pA, 10pA; Packing: Reel; Mounting Technology: Surface Mount; Code_JEDEC: MO-187-AA; ComponentLink1Description: Manufacturer URL; ComponentLink1URL: http://www.analog.com/en/index.html; ComponentLink2Description: Datasheet; ComponentLink2URL: http://www.analog.com/static/imported-files/data_sheets/ADG821_822_823.pdf; ComponentLink3Description: Package Specification; ComponentLink3URL: http://www.analog.com/static/imported-files/packages/PKG_PDF/MSOP%28RM%29/RM_8.pdf
footprint ADI-RM-8_N (SOP, 8-Leads, Body 3x3mm, Pitch 0.65mm, IPC Medium Density)
footprint ADI-RM-8_L (SOP, 8-Leads, Body 3x3mm, Pitch 0.65mm, IPC High Density)
footprint ADI-RM-8_M (SOP, 8-Leads, Body 3x3mm, Pitch 0.65mm, IPC Low Density)
pins: 1 S1 "Source Terminal. This pin can be an input or output.", 2 D1 "Drain Terminal. This pin can be an input or output.", 3 IN2 (in) "Logic Control Input.", 4 GND (power) "Ground (0 V) Reference.", 5 S2 "Source Terminal. This pin can be an input or output.", 6 D2 "Drain Terminal. This pin can be an input or output.", 7 IN1 (in) "Logic Control Input.", 8 VDD (power) "Most Positive Power Supply Potential."

## ADG836LYRM
designator U?
0.5 Ohm CMOS 1.65 to 3.6 V Dual SPDT / 2:1 MUX, -40 to 125 degC, 10-pin SOP (RM-10), Tube; Manufacturer: Analog Devices; PartNumber: ADG836LYRM; # Sw Functions: 2; Id, Is (ON): 200pA, 200pA, 200pA; Max Pos Supply: 3.6V; Min Pos Supply: 1.65V; Power Dissipation: 3.6uW; Ron (ohms): 0.5; DatasheetVersion: Rev. A; PackageVersion: Aug-05; PackageReference: RM-10; PackageDescription: 10-Pin Mini Small Outline Package, Body 3 x 3 mm, Pitch 0.5 mm; Supplier 1: Digi-Key; Supplier Part Number 1: ADG836LYRM-ND; Supplier 2: Mouser; Supplier Part Number 2: 584-ADG836LYRM; Configuration: SPDT; Is OFF: 200pA, 200pA, 200pA; Packing: Tube; Mounting Technology: Surface Mount; Code_JEDEC: MO-187-BA; ComponentLink1Description: Manufacturer URL; ComponentLink1URL: http://www.analog.com/en/index.html; ComponentLink2Description: Datasheet; ComponentLink2URL: http://www.analog.com/static/imported-files/data_sheets/ADG836L.pdf; ComponentLink3Description: Package Specification; ComponentLink3URL: http://www.analog.com/static/imported-files/packages/PKG_PDF/MSOP%28RM%29/RM_10.pdf
footprint ADI-RM-10_N (SOP, 10-Leads, Body 3x3mm, Pitch 0.5mm, IPC Medium Density)
footprint ADI-RM-10_L (SOP, 10-Leads, Body 3x3mm, Pitch 0.5mm, IPC High Density)
footprint ADI-RM-10_M (SOP, 10-Leads, Body 3x3mm, Pitch 0.5mm, IPC Low Density)
pins: 1 IN1 (in) "Logic control input.", 2 S1A "Source terminal. May be an input or output.", 3 GND (power) "Ground (0 V) reference.", 4 S2A "Source terminal. May be an input or output.", 5 IN2 (in) "Logic control input.", 6 D2 "Drain terminal. May be an input or output.", 7 S2B "Source terminal. May be an input or output.", 8 VDD (power) "Most positive power supply potential.", 9 S1B "Source terminal. May be an input or output.", 10 D1 "Drain terminal. May be an input or output."

## ADG836LYRM-REEL
designator U?
0.5 Ohm CMOS 1.65 to 3.6 V Dual SPDT / 2:1 MUX, -40 to 125 degC, 10-pin SOP (RM-10), Reel; Manufacturer: Analog Devices; PartNumber: ADG836LYRM-REEL; # Sw Functions: 2; Id, Is (ON): 200pA, 200pA, 200pA; Max Pos Supply: 3.6V; Min Pos Supply: 1.65V; Power Dissipation: 3.6uW; Ron (ohms): 0.5; DatasheetVersion: Rev. A; PackageVersion: Aug-05; PackageReference: RM-10; PackageDescription: 10-Pin Mini Small Outline Package, Body 3 x 3 mm, Pitch 0.5 mm; Supplier 1: Digi-Key; Supplier Part Number 1: ADG836LYRM-REEL-ND; Supplier 2: Newark; Supplier Part Number 2: 59K1652; Supplier 3: Mouser; Supplier Part Number 3: 584-ADG836LYRM-R; Configuration: SPDT; Is OFF: 200pA, 200pA, 200pA; Packing: Reel; Mounting Technology: Surface Mount; Code_JEDEC: MO-187-BA; ComponentLink1Description: Manufacturer URL; ComponentLink1URL: http://www.analog.com/en/index.html; ComponentLink2Description: Datasheet; ComponentLink2URL: http://www.analog.com/static/imported-files/data_sheets/ADG836L.pdf; ComponentLink3Description: Package Specification; ComponentLink3URL: http://www.analog.com/static/imported-files/packages/PKG_PDF/MSOP%28RM%29/RM_10.pdf
footprint ADI-RM-10_N (SOP, 10-Leads, Body 3x3mm, Pitch 0.5mm, IPC Medium Density)
footprint ADI-RM-10_L (SOP, 10-Leads, Body 3x3mm, Pitch 0.5mm, IPC High Density)
footprint ADI-RM-10_M (SOP, 10-Leads, Body 3x3mm, Pitch 0.5mm, IPC Low Density)
pins: 1 IN1 (in) "Logic control input.", 2 S1A "Source terminal. May be an input or output.", 3 GND (power) "Ground (0 V) reference.", 4 S2A "Source terminal. May be an input or output.", 5 IN2 (in) "Logic control input.", 6 D2 "Drain terminal. May be an input or output.", 7 S2B "Source terminal. May be an input or output.", 8 VDD (power) "Most positive power supply potential.", 9 S1B "Source terminal. May be an input or output.", 10 D1 "Drain terminal. May be an input or output."

## ADG836LYRM-REEL7
designator U?
0.5 Ohm CMOS 1.65 to 3.6 V Dual SPDT / 2:1 MUX, -40 to 125 degC, 10-pin SOP (RM-10), Reel; Manufacturer: Analog Devices; PartNumber: ADG836LYRM-REEL7; # Sw Functions: 2; Id, Is (ON): 200pA, 200pA, 200pA; Max Pos Supply: 3.6V; Min Pos Supply: 1.65V; Power Dissipation: 3.6uW; Ron (ohms): 0.5; DatasheetVersion: Rev. A; PackageVersion: Aug-05; PackageReference: RM-10; PackageDescription: 10-Pin Mini Small Outline Package, Body 3 x 3 mm, Pitch 0.5 mm; Supplier 1: Digi-Key; Supplier Part Number 1: ADG836LYRM-REEL7-ND; Supplier 2: Mouser; Supplier Part Number 2: 584-ADG836LYRM-R7; Configuration: SPDT; Is OFF: 200pA, 200pA, 200pA; Packing: Reel; Mounting Technology: Surface Mount; Code_JEDEC: MO-187-BA; ComponentLink1Description: Manufacturer URL; ComponentLink1URL: http://www.analog.com/en/index.html; ComponentLink2Description: Datasheet; ComponentLink2URL: http://www.analog.com/static/imported-files/data_sheets/ADG836L.pdf; ComponentLink3Description: Package Specification; ComponentLink3URL: http://www.analog.com/static/imported-files/packages/PKG_PDF/MSOP%28RM%29/RM_10.pdf
footprint ADI-RM-10_N (SOP, 10-Leads, Body 3x3mm, Pitch 0.5mm, IPC Medium Density)
footprint ADI-RM-10_L (SOP, 10-Leads, Body 3x3mm, Pitch 0.5mm, IPC High Density)
footprint ADI-RM-10_M (SOP, 10-Leads, Body 3x3mm, Pitch 0.5mm, IPC Low Density)
pins: 1 IN1 (in) "Logic control input.", 2 S1A "Source terminal. May be an input or output.", 3 GND (power) "Ground (0 V) reference.", 4 S2A "Source terminal. May be an input or output.", 5 IN2 (in) "Logic control input.", 6 D2 "Drain terminal. May be an input or output.", 7 S2B "Source terminal. May be an input or output.", 8 VDD (power) "Most positive power supply potential.", 9 S1B "Source terminal. May be an input or output.", 10 D1 "Drain terminal. May be an input or output."

## ADG836LYRMZ
designator U?
0.5 Ohm CMOS 1.65 to 3.6 V Dual SPDT / 2:1 MUX, -40 to 125 degC, 10-pin SOP (RM-10), Tube; Manufacturer: Analog Devices; PartNumber: ADG836LYRMZ; # Sw Functions: 2; Id, Is (ON): 200pA, 200pA, 200pA; Max Pos Supply: 3.6V; Min Pos Supply: 1.65V; Power Dissipation: 3.6uW; Ron (ohms): 0.5; DatasheetVersion: Rev. A; PackageVersion: Aug-05; PackageReference: RM-10; PackageDescription: 10-Pin Mini Small Outline Package, Body 3 x 3 mm, Pitch 0.5 mm; Supplier 1: Digi-Key; Supplier Part Number 1: ADG836LYRMZ-ND; Supplier 2: Farnell; Supplier Part Number 2: 2316716; Supplier 3: Newark; Supplier Part Number 3: 59K1654; Supplier 4: Mouser; Supplier Part Number 4: 584-ADG836LYRMZ; Configuration: SPDT; Is OFF: 200pA, 200pA, 200pA; Packing: Tube; Mounting Technology: Surface Mount; Code_JEDEC: MO-187-BA; ComponentLink1Description: Manufacturer URL; ComponentLink1URL: http://www.analog.com/en/index.html; ComponentLink2Description: Datasheet; ComponentLink2URL: http://www.analog.com/static/imported-files/data_sheets/ADG836L.pdf; ComponentLink3Description: Package Specification; ComponentLink3URL: http://www.analog.com/static/imported-files/packages/PKG_PDF/MSOP%28RM%29/RM_10.pdf
footprint ADI-RM-10_N (SOP, 10-Leads, Body 3x3mm, Pitch 0.5mm, IPC Medium Density)
footprint ADI-RM-10_L (SOP, 10-Leads, Body 3x3mm, Pitch 0.5mm, IPC High Density)
footprint ADI-RM-10_M (SOP, 10-Leads, Body 3x3mm, Pitch 0.5mm, IPC Low Density)
pins: 1 IN1 (in) "Logic control input.", 2 S1A "Source terminal. May be an input or output.", 3 GND (power) "Ground (0 V) reference.", 4 S2A "Source terminal. May be an input or output.", 5 IN2 (in) "Logic control input.", 6 D2 "Drain terminal. May be an input or output.", 7 S2B "Source terminal. May be an input or output.", 8 VDD (power) "Most positive power supply potential.", 9 S1B "Source terminal. May be an input or output.", 10 D1 "Drain terminal. May be an input or output."

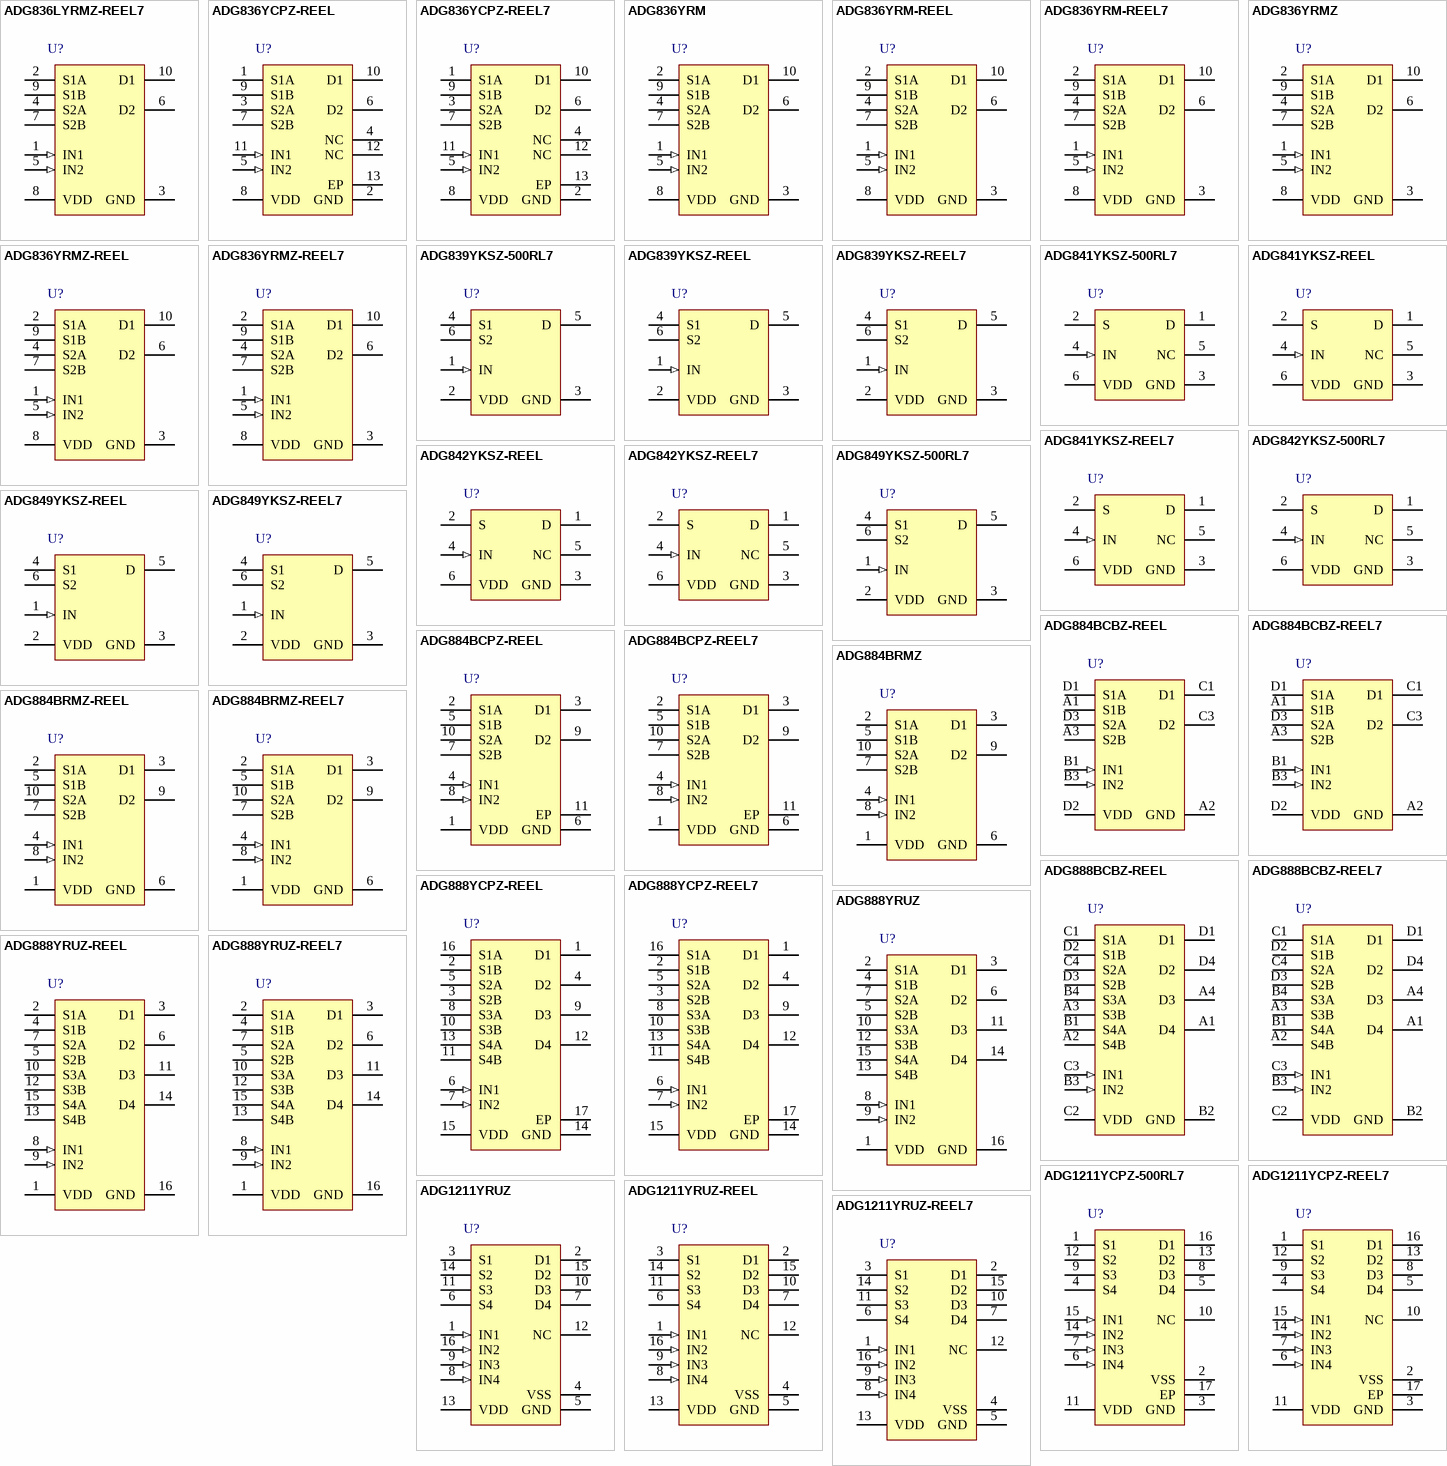
[diagram p11: symbols ADG836LYRMZ-REEL7 to ADG1211YRUZ-REEL7]

## ADG836LYRMZ-REEL7
designator U?
0.5 Ohm CMOS 1.65 to 3.6 V Dual SPDT / 2:1 MUX, -40 to 125 degC, 10-pin SOP (RM-10), Reel; Manufacturer: Analog Devices; PartNumber: ADG836LYRMZ-REEL7; # Sw Functions: 2; Id, Is (ON): 200pA, 200pA, 200pA; Max Pos Supply: 3.6V; Min Pos Supply: 1.65V; Power Dissipation: 3.6uW; Ron (ohms): 0.5; DatasheetVersion: Rev. A; PackageVersion: Aug-05; PackageReference: RM-10; PackageDescription: 10-Pin Mini Small Outline Package, Body 3 x 3 mm, Pitch 0.5 mm; Supplier 1: Digi-Key; Supplier Part Number 1: ADG836LYRMZ-REEL7-ND; Supplier 2: Mouser; Supplier Part Number 2: 584-ADG836LYRMZ-R7; Configuration: SPDT; Is OFF: 200pA, 200pA, 200pA; Packing: Reel; Mounting Technology: Surface Mount; Code_JEDEC: MO-187-BA; ComponentLink1Description: Manufacturer URL; ComponentLink1URL: http://www.analog.com/en/index.html; ComponentLink2Description: Datasheet; ComponentLink2URL: http://www.analog.com/static/imported-files/data_sheets/ADG836L.pdf; ComponentLink3Description: Package Specification; ComponentLink3URL: http://www.analog.com/static/imported-files/packages/PKG_PDF/MSOP%28RM%29/RM_10.pdf
footprint ADI-RM-10_N (SOP, 10-Leads, Body 3x3mm, Pitch 0.5mm, IPC Medium Density)
footprint ADI-RM-10_L (SOP, 10-Leads, Body 3x3mm, Pitch 0.5mm, IPC High Density)
footprint ADI-RM-10_M (SOP, 10-Leads, Body 3x3mm, Pitch 0.5mm, IPC Low Density)
pins: 1 IN1 (in) "Logic control input.", 2 S1A "Source terminal. May be an input or output.", 3 GND (power) "Ground (0 V) reference.", 4 S2A "Source terminal. May be an input or output.", 5 IN2 (in) "Logic control input.", 6 D2 "Drain terminal. May be an input or output.", 7 S2B "Source terminal. May be an input or output.", 8 VDD (power) "Most positive power supply potential.", 9 S1B "Source terminal. May be an input or output.", 10 D1 "Drain terminal. May be an input or output."

## ADG836YCPZ-REEL
designator U?
0.5 Ohm CMOS 1.65 to 3.6 V Dual SPDT / 2:1 MUX, -40 to 125 degC, 12-pin QFN (CP-12-1), Reel; Manufacturer: Analog Devices; PartNumber: ADG836YCPZ-REEL; # Sw Functions: 2; Id, Is (ON): 200pA, 200pA, 200pA; Max Pos Supply: 3.6V; Min Pos Supply: 1.65V; Power Dissipation: 3.6uW; Ron (ohms): 0.5; DatasheetVersion: Rev. A; PackageReference: CP-12-1; PackageDescription: 12-Pin Lead Frame Chip Scale Package, Body 3 x 3 mm, Pitch 0.5 mm; Supplier 1: Digi-Key; Supplier Part Number 1: ADG836YCPZ-REEL-ND; Supplier 2: Mouser; Supplier Part Number 2: 584-ADG836YCPZ-R; Configuration: SPDT; Is OFF: 200pA, 200pA, 200pA; Packing: Reel; Mounting Technology: Surface Mount; Code_JEDEC: MO-220-VEED-1; ComponentLink1Description: Manufacturer URL; ComponentLink1URL: http://www.analog.com/en/index.html; ComponentLink2Description: Datasheet; ComponentLink2URL: http://www.analog.com/static/imported-files/data_sheets/ADG836.pdf; ComponentLink3Description: Package Specification; ComponentLink3URL: http://www.analog.com/static/imported-files/packages/CP_12_1.pdf
footprint ADI-CP-12-1_N (QFN, 12-Leads, Body 3x3mm, Pitch 0.5mm, Thermal Pad 1.3x1.3mm, IPC Medium Density)
footprint ADI-CP-12-1_L (QFN, 12-Leads, Body 3x3mm, Pitch 0.5mm, Thermal Pad 1.3x1.3mm, IPC High Density)
footprint ADI-CP-12-1_M (QFN, 12-Leads, Body 3x3mm, Pitch 0.5mm, Thermal Pad 1.3x1.3mm, IPC Low Density)
pins: 1 S1A "Source terminal. May be an input or output.", 2 GND (power) "Ground (0 V) reference.", 3 S2A "Source terminal. May be an input or output.", 4 NC "No connect", 5 IN2 (in) "Logic control input", 6 D2 "Drain terminal. May be an input or output.", 7 S2B "Source terminal. May be an input or output.", 8 VDD (power) "Most positive power supply potential.", 9 S1B "Source terminal. May be an input or output.", 10 D1 "Drain terminal. May be an input or output.", 11 IN1 (in) "Logic control input", 12 NC "No connect", 13 EP

## ADG836YCPZ-REEL7
designator U?
0.5 Ohm CMOS 1.65 to 3.6 V Dual SPDT / 2:1 MUX, -40 to 125 degC, 12-pin QFN (CP-12-1), Reel; Manufacturer: Analog Devices; PartNumber: ADG836YCPZ-REEL7; # Sw Functions: 2; Id, Is (ON): 200pA, 200pA, 200pA; Max Pos Supply: 3.6V; Min Pos Supply: 1.65V; Power Dissipation: 3.6uW; Ron (ohms): 0.5; DatasheetVersion: Rev. A; PackageReference: CP-12-1; PackageDescription: 12-Pin Lead Frame Chip Scale Package, Body 3 x 3 mm, Pitch 0.5 mm; Supplier 1: Digi-Key; Supplier Part Number 1: ADG836YCPZ-REEL7TR-ND; Supplier 2: Digi-Key; Supplier Part Number 2: ADG836YCPZ-REEL7CT-ND; Supplier 3: Digi-Key; Supplier Part Number 3: ADG836YCPZ-REEL7DKR-ND; Supplier 4: Newark; Supplier Part Number 4: 59K1657; Supplier 5: Mouser; Supplier Part Number 5: 584-ADG836YCPZ-R7; Configuration: SPDT; Is OFF: 200pA, 200pA, 200pA; Packing: Reel; Mounting Technology: Surface Mount; Code_JEDEC: MO-220-VEED-1; ComponentLink1Description: Manufacturer URL; ComponentLink1URL: http://www.analog.com/en/index.html; ComponentLink2Description: Datasheet; ComponentLink2URL: http://www.analog.com/static/imported-files/data_sheets/ADG836.pdf; ComponentLink3Description: Package Specification; ComponentLink3URL: http://www.analog.com/static/imported-files/packages/CP_12_1.pdf
footprint ADI-CP-12-1_N (QFN, 12-Leads, Body 3x3mm, Pitch 0.5mm, Thermal Pad 1.3x1.3mm, IPC Medium Density)
footprint ADI-CP-12-1_L (QFN, 12-Leads, Body 3x3mm, Pitch 0.5mm, Thermal Pad 1.3x1.3mm, IPC High Density)
footprint ADI-CP-12-1_M (QFN, 12-Leads, Body 3x3mm, Pitch 0.5mm, Thermal Pad 1.3x1.3mm, IPC Low Density)
pins: 1 S1A "Source terminal. May be an input or output.", 2 GND (power) "Ground (0 V) reference.", 3 S2A "Source terminal. May be an input or output.", 4 NC "No connect", 5 IN2 (in) "Logic control input", 6 D2 "Drain terminal. May be an input or output.", 7 S2B "Source terminal. May be an input or output.", 8 VDD (power) "Most positive power supply potential.", 9 S1B "Source terminal. May be an input or output.", 10 D1 "Drain terminal. May be an input or output.", 11 IN1 (in) "Logic control input", 12 NC "No connect", 13 EP